# EAGLE library part DRV8825PWP (library debauer_ics)
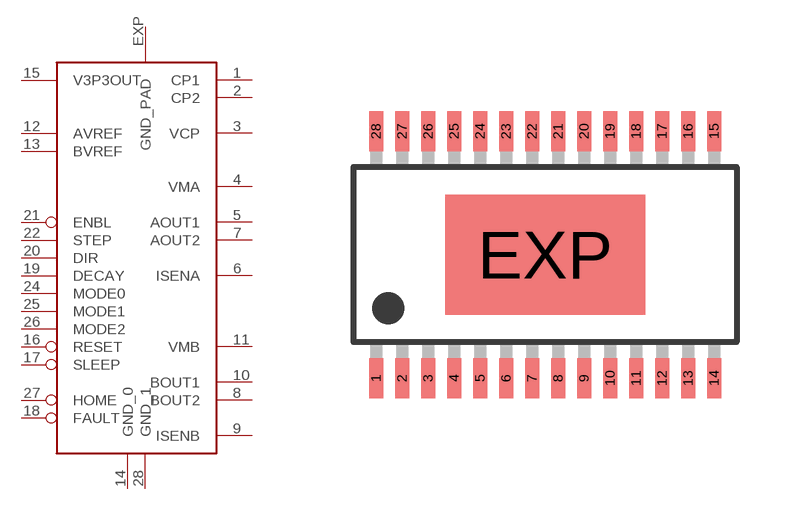
[diagram p40: symbol with the pads of TSSOP-28; footprint TSSOP-28]

Designator prefix -

## DRV8825PWP  [TSSOP-28]
1  CP1
2  CP2
3  VCP
4  VMA  pwr
5  AOUT1  out
6  ISENA  out
7  AOUT2  out
8  BOUT2  out
9  ISENB  out
10  BOUT1  out
11  VMB  pwr
12  AVREF  in
13  BVREF  in
14  GND_0  pwr
15  V3P3OUT  out
16  RESET  in
17  SLEEP  in
18  FAULT  out
19  DECAY  in
20  DIR  in
21  ENBL  in
22  STEP  in
24  MODE0  in
25  MODE1  in
26  MODE2  in
27  HOME  out
28  GND_1  pwr
EXP  GND_PAD  pwr

## Footprint TSSOP-28 (pad centres in mm)
smd 0.35 x 1: 1 -4.225,-3.087; 2 -3.575,-3.087; 3 -2.925,-3.087; 4 -2.275,-3.087; 5 -1.625,-3.087; 6 -0.975,-3.087; 7 -0.325,-3.087; 8 0.325,-3.087; 9 0.975,-3.087; 10 1.625,-3.087; 11 2.275,-3.087; 12 2.925,-3.087; 13 3.575,-3.087; 14 4.225,-3.087; 15 4.225,3.087; 16 3.575,3.087; 17 2.925,3.087; 18 2.275,3.087; 19 1.625,3.087; 20 0.975,3.087; 21 0.325,3.087; 22 -0.325,3.087; 23 -0.975,3.087; 24 -1.625,3.087; 25 -2.275,3.087; 26 -2.925,3.087; 27 -3.575,3.087; 28 -4.225,3.087
smd 5 x 3: EXP 0,0